# EAGLE library part MP2307DN-LF-Z (library MP2307DN-LF-Z)
Switching Voltage Regulators 3A/23VSynchRectified Step-down Converter Source: Datasheet <http://www.mouser.com/ds/2/277/MP2307_r1.9-371737.pdf>
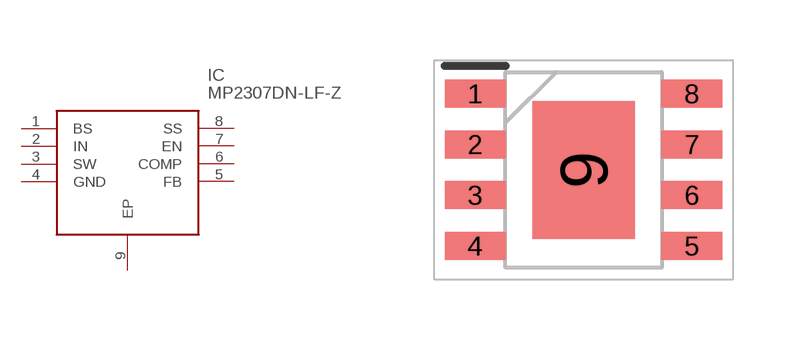
[diagram p0: symbol with the pads of SOIC127P600X170-9N; footprint SOIC127P600X170-9N]

Designator prefix IC

## MP2307DN-LF-Z (Description: Switching Voltage Regulators 3A/23VSynchRectified Step-down Converter; Height: 1.7mm; Manufacturer_Name: Monolithic Power Systems (MPS); Manufacturer_Part_Number: MP2307DN-LF-Z; Mouser_Part_Number: 946-MP2307DNLFZ; Mouser_Price-Stock: https://www.mouser.co.uk/ProductDetail/Monolithic-Power-Systems-MPS/MP2307DN-LF-Z?qs=rC7bBWoQAAmsFilkwcof5g%3D%3D)  [SOIC127P600X170-9N]
1  BS
2  IN
3  SW
4  GND
5  FB
6  COMP
7  EN
8  SS
9  EP

## Footprint SOIC127P600X170-9N (pad centres in mm)
SOIC8E (EP)
smd 1.525 x 0.7: 1 -2.712,1.905; 2 -2.712,0.635; 3 -2.712,-0.635; 4 -2.712,-1.905; 5 2.712,-1.905; 6 2.712,-0.635; 7 2.712,0.635; 8 2.712,1.905
smd 2.56 x 3.45: 9 0,0